# EAGLE library part DIL42 (library ic-package)
Dual In Line
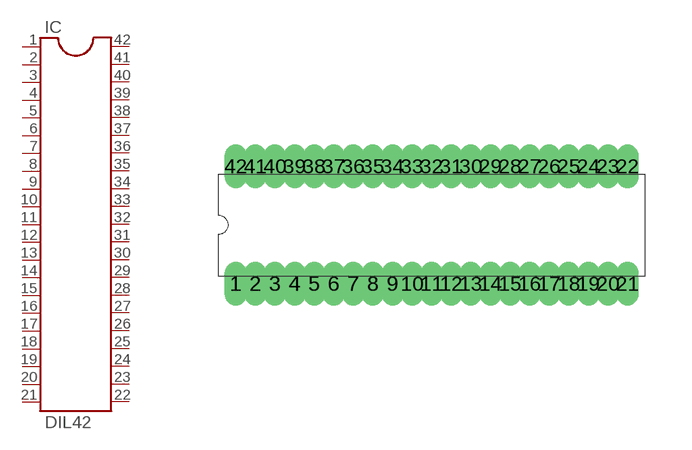
[diagram p15: symbol with the pads of DIL42; footprint DIL42]

Designator prefix IC

## DIL42  [DIL42]
1  1  pas
2  2  pas
3  3  pas
4  4  pas
5  5  pas
6  6  pas
7  7  pas
8  8  pas
9  9  pas
10  10  pas
11  11  pas
12  12  pas
13  13  pas
14  14  pas
15  15  pas
16  16  pas
17  17  pas
18  18  pas
19  19  pas
20  20  pas
21  21  pas
22  22  pas
23  23  pas
24  24  pas
25  25  pas
26  26  pas
27  27  pas
28  28  pas
29  29  pas
30  30  pas
31  31  pas
32  32  pas
33  33  pas
34  34  pas
35  35  pas
36  36  pas
37  37  pas
38  38  pas
39  39  pas
40  40  pas
41  41  pas
42  42  pas

## Footprint DIL42 (pad centres in mm)
Dual In Line Package
drill 0.203 long: 1 -6.35,-1.905; 2 -5.715,-1.905; 3 -5.08,-1.905; 4 -4.445,-1.905; 5 -3.81,-1.905; 6 -3.175,-1.905; 7 -2.54,-1.905; 8 -1.905,-1.905; 9 -1.27,-1.905; 10 -0.635,-1.905; 11 0,-1.905; 12 0.635,-1.905; 13 1.27,-1.905; 14 1.905,-1.905; 15 2.54,-1.905; 16 3.175,-1.905; 17 3.81,-1.905; 18 4.445,-1.905; 19 5.08,-1.905; 20 5.715,-1.905; 21 6.35,-1.905; 22 6.35,1.905; 23 5.715,1.905; 24 5.08,1.905; 25 4.445,1.905; 26 3.81,1.905; 27 3.175,1.905; 28 2.54,1.905; 29 1.905,1.905; 30 1.27,1.905; 31 0.635,1.905; 32 0,1.905; 33 -0.635,1.905; 34 -1.27,1.905; 35 -1.905,1.905; 36 -2.54,1.905; 37 -3.175,1.905; 38 -3.81,1.905; 39 -4.445,1.905; 40 -5.08,1.905; 41 -5.715,1.905; 42 -6.35,1.905